# EAGLE library part SM_1232_AQ2X14BIT (library e-sps)
SM 1232 AQ 2 x 14 bit Source: s71200_easy_book_de-DE_de-DE.pdf
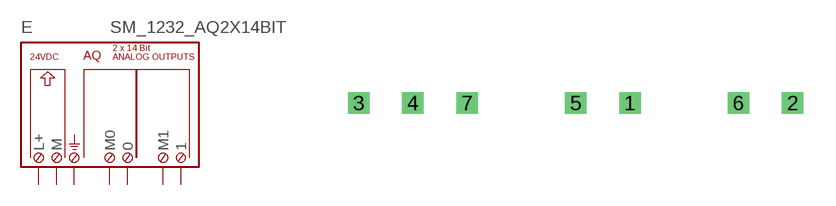
[diagram p13: symbol with the pads of SM_1232_AQ2X14BIT; footprint SM_1232_AQ2X14BIT]

Designator prefix E

## SM_1232_AQ2X14BIT  [SM_1232_AQ2X14BIT]
1  0  pas
2  1  pas
3  L+  pas
4  M  pas
5  M0  pas
6  M1  pas
7  PE  pas

## Footprint SM_1232_AQ2X14BIT (pad centres in mm)
Dummy
drill 0.5 pad 1 square: 1 2.54,-20.32; 2 10.16,-20.32; 3 -10.16,-20.32; 4 -7.62,-20.32; 5 0,-20.32; 6 7.62,-20.32; 7 -5.08,-20.32